# EAGLE library part TOSHIBA-TBD62783AFG,EL (library ClintonLib)
High Side Load Switch IC 500mA Max/channel
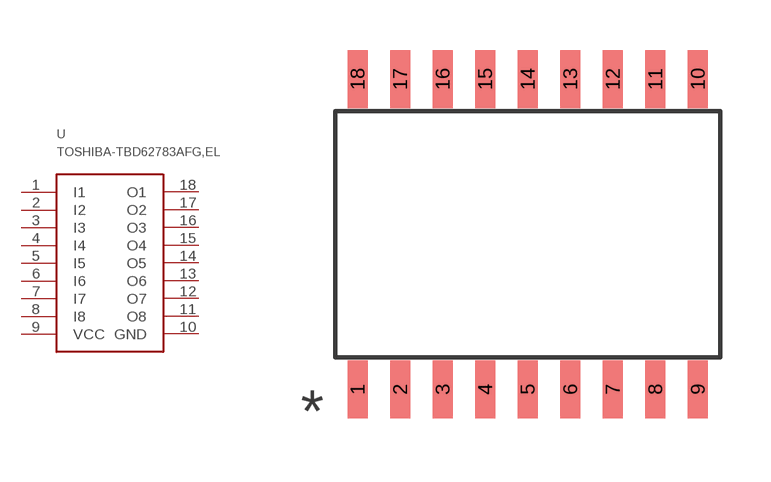
[diagram p23: symbol with the pads of SOP18; footprint SOP18]

Designator prefix -

## TOSHIBA-TBD62783AFG,EL  [SOP18]
1  I1  pwr
2  I2  pwr
3  I3  pwr
4  I4  pwr
5  I5  pwr
6  I6  pwr
7  I7  pwr
8  I8  pwr
9  VCC  pwr
10  GND  pwr
11  O8  pwr
12  O7  pwr
13  O6  pwr
14  O5  pwr
15  O4  pwr
16  O3  pwr
17  O2  pwr
18  O1  pwr

## Footprint SOP18 (pad centres in mm)
smd 0.6 x 1.725: 1 0,0; 2 1.27,0; 3 2.54,0; 4 3.81,0; 5 5.08,0; 6 6.35,0; 7 7.62,0; 8 8.89,0; 9 10.16,0; 10 10.16,9.275; 11 8.89,9.275; 12 7.62,9.275; 13 6.35,9.275; 14 5.08,9.275; 15 3.81,9.275; 16 2.54,9.275; 17 1.27,9.275; 18 0,9.275